# Altium footprint library TMC2590_BOB40_V1_0.PcbLib: 5 footprints
Each footprint in its own frame and in the unit in brackets; x right, y up, seen from the top. Pads: shape width x height; smd on the part's side, far side on the other; paste and mask are expansions set on the pad; w line width, h text height; cw(c..) or ccw(c..) is an arc to the next point about the centre after c.
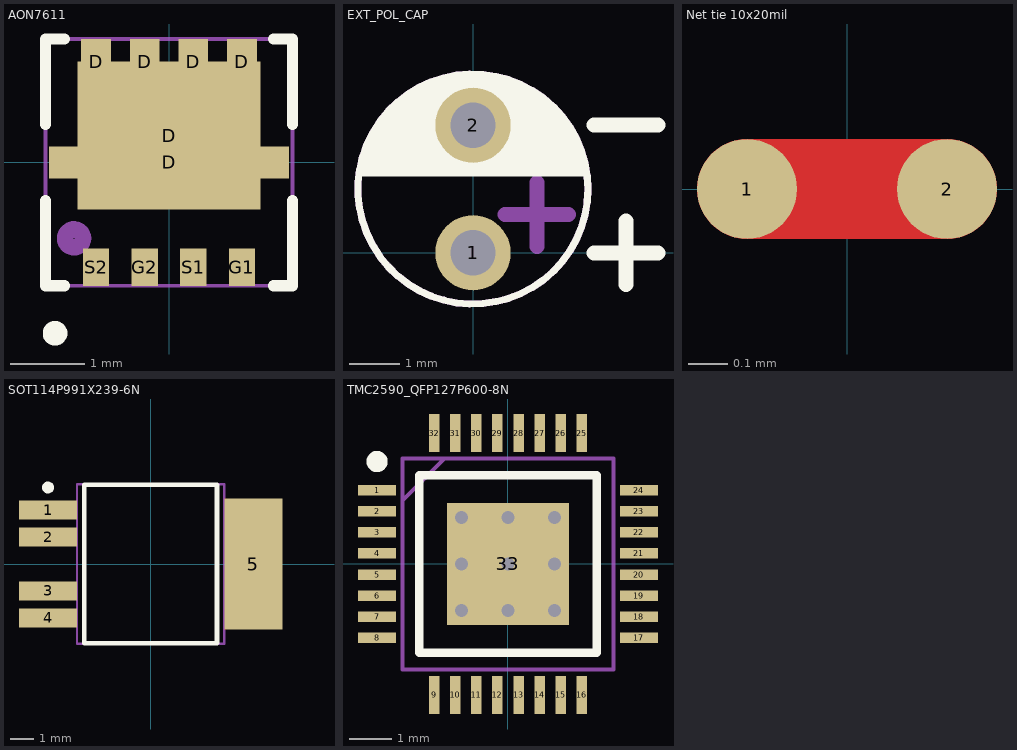
[diagram p0: the footprints below, top view; thin cyan lines are the x and y axes]

## AON7611 [mm]
pads (10):
  rect 0.4x0.6 smd mask+0.064: D(-0.975,1.35) D(-0.325,1.35) D(0.325,1.35) D(0.975,1.35)
  rect 3.21x0.43 smd: D(0,0)
  rect 2.45x1.98 smd: D(0,0.36)
  rect 0.35x0.5 smd mask+0.064: G1(0.975,-1.4) G2(-0.325,-1.4) S1(0.325,-1.4) S2(-0.975,-1.4)
Top Overlay:
  circle w0.178: c-1.524,-2.286 r0.076
  lines w0.15: -1.651,-0.508 -1.651,-1.651 -1.397,-1.651 ; -1.651,0.508 -1.651,1.651 -1.397,1.651 ; 1.397,-1.651 1.651,-1.651 1.651,-0.508 ; 1.397,1.651 1.651,1.651 1.651,0.508
TopAsm:
  circle w0.22: c-1.27,-1.016 r0.12
  lines w0.051: -1.651,-1.651 0,-1.651 1.651,-1.651 1.651,0 1.651,1.651 0,1.651 -1.651,1.651 -1.651,0 -1.651,-1.651
  text ".Designator" at -1.27,-0.254 h0.51
3D body: height 0.9, standoff 0, extent -1.55,-1.55 1.55,1.55

## EXT_POL_CAP [mm]
pads (2):
  round 1.5 hole 0.9: 1(0,0) 2(0,2.54)
Top Overlay:
  circle w0.14: c0,1.27 r2.29
  pour cut-out: 0.889,2.54 0.889,2.628 0.855,2.799 0.788,2.961 0.691,3.107 0.567,3.231 0.421,3.328 0.259,3.395 0.088,3.429 0,3.429 -0.088,3.429 -0.259,3.395 -0.421,3.328 -0.567,3.231 -0.691,3.107 -0.788,2.961 -0.855,2.799 -0.889,2.628 -0.889,2.54 -0.889,2.452 -0.855,2.281 -0.788,2.119 -0.691,1.973 -0.567,1.849 -0.421,1.752 -0.259,1.685 -0.088,1.651 0,1.651 0.088,1.651 0.259,1.685 0.421,1.752 0.567,1.849 0.691,1.973 0.788,2.119 0.855,2.281 0.889,2.452
  region: 0,1.524 -2.272,1.524 -2.249,1.732 -2.128,2.132 -1.936,2.504 -1.68,2.834 -1.368,3.113 -1.011,3.331 -0.62,3.48 -0.209,3.556 0,3.556 0.209,3.556 0.62,3.48 1.011,3.331 1.368,3.113 1.68,2.834 1.936,2.504 2.128,2.132 2.249,1.732 2.272,1.524 0,1.524 0,1.651 0.087,1.655 0.258,1.689 0.419,1.756 0.564,1.853 0.687,1.976 0.784,2.121 0.851,2.282 0.885,2.453 0.889,2.54 0.885,2.627 0.851,2.798 0.784,2.959 0.687,3.104 0.564,3.227 0.419,3.324 0.258,3.391 0.087,3.425 0,3.429 -0.087,3.425 -0.258,3.391 -0.419,3.324 -0.564,3.227 -0.687,3.104 -0.784,2.959 -0.851,2.798 -0.885,2.627 -0.889,2.54 -0.885,2.453 -0.851,2.282 -0.784,2.121 -0.687,1.976 -0.564,1.853 -0.419,1.756 -0.258,1.689 -0.087,1.655 0,1.651
  lines w0.3: 2.413,0 3.683,0 ; 2.413,2.54 3.683,2.54 ; 3.048,-0.635 3.048,0.635
TopAsm:
  circle w0.14: c0,1.27 r2.29
  region: -2.254,1.651 2.258,1.651 2.224,1.849 2.089,2.228 1.89,2.577 1.633,2.886 1.326,3.146 0.978,3.348 0.6,3.486 0.205,3.556 0.004,3.556 -0.198,3.556 -0.594,3.486 -0.972,3.348 -1.32,3.146 -1.627,2.887 -1.885,2.578 -2.085,2.228 -2.22,1.849
  lines w0.3: 0.635,0.762 1.905,0.762 ; 1.27,0.127 1.27,1.397
  text ".Designator" at -1.905,0.762 h1.27

## Net tie 10x20mil [mil]
pads (2):
  round 10 smd paste-39.37: 1(-10,0) 2(10,0)
Top Layer:
  lines w10: -10,0 10,0

## SOT114P991X239-6N [mm] "SOT223, 6-Leads, Body 6,54x9,91mm (avg), Pitch 1,14mm, IPC Medium Density"
height 2.39
pads (5):
  rect 2.45x0.8 smd: 1(-4.335,2.28) 2(-4.335,1.14) 3(-4.335,-1.14) 4(-4.335,-2.28)
  rect 2.45x5.55 smd: 5(4.335,0)
Top Overlay:
  circle w0.25: c-4.335,3.23 r0.125
  lines w0.2: -2.8,-3.35 2.8,-3.35 2.8,3.35 -2.8,3.35 -2.8,-3.35
Mechanical 13:
  lines w0.1: -3.11,-3.365 3.11,-3.365 3.11,3.365 -3.11,3.365 -3.11,-3.365
TopAsm:
  lines w0.1: -3.11,-3.365 -3.11,3.365 3.11,3.365 3.11,-3.365 -3.11,-3.365
  text ".Designator" at -2,-0.5 h1.27
3D body "SW3dPS-PG-TO252-5-11-1.STEP": height 2.3, standoff 0, extent -4.8,-3.25 5.1,3.25

## TMC2590_QFP127P600-8N [mm]
height 1.14
pads (33):
  rect 0.9x0.25 smd mask+0.051: 1(-3.1,1.75) 2(-3.1,1.25) 3(-3.1,0.75) 4(-3.1,0.25) 5(-3.1,-0.25) 6(-3.1,-0.75) 7(-3.1,-1.25) 8(-3.1,-1.75) 17(3.1,-1.75) 18(3.1,-1.25) 19(3.1,-0.75) 20(3.1,-0.25) 21(3.1,0.25) 22(3.1,0.75) 23(3.1,1.25) 24(3.1,1.75)
  rect 0.25x0.9 smd mask+0.051: 9(-1.75,-3.1) 10(-1.25,-3.1) 11(-0.75,-3.1) 12(-0.25,-3.1) 13(0.25,-3.1) 14(0.75,-3.1) 15(1.25,-3.1) 16(1.75,-3.1) 25(1.75,3.1) 26(1.25,3.1) 27(0.75,3.1) 28(0.25,3.1) 29(-0.25,3.1) 30(-0.75,3.1) 31(-1.25,3.1) 32(-1.75,3.1)
  rect 2.88x2.88 smd: 33(0,0)
via -1.1,1.1 diameter 0.61 hole 0.305
via 0,1.1 diameter 0.61 hole 0.305
via 1.1,1.1 diameter 0.61 hole 0.305
via -1.1,0 diameter 0.61 hole 0.305
via 0,0 diameter 0.61 hole 0.305
via 1.1,0 diameter 0.61 hole 0.305
via -1.1,-1.1 diameter 0.61 hole 0.305
via 0,-1.1 diameter 0.61 hole 0.305
via 1.1,-1.1 diameter 0.61 hole 0.305
Top Overlay:
  circle w0.25: c-3.1,2.425 r0.125
  lines w0.2: -2.1,-2.1 -2.1,2.1 2.1,2.1 2.1,-2.1 -2.1,-2.1
Bottom Solder:
  region: -1.5,1.5 1.5,1.5 1.5,-1.5 -1.5,-1.5
TopAsm:
  lines w0.1: -2.5,1.5 -1.5,2.5 ; -2.5,-2.5 2.5,-2.5 2.5,2.5 -2.5,2.5 -2.5,-2.5
  text ".Designator" at -2,-0.5 h1.27
3D body "TMC2590_QFP127P600-8N.step": height 1.14, standoff 0, extent -3.5,-3.5 3.5,3.5